# Altium footprint library PLD2-10.PcbLib: 1 footprints
Each footprint in its own frame and in the unit in brackets; x right, y up, seen from the top. Pads: shape width x height; smd on the part's side, far side on the other; paste and mask are expansions set on the pad; w line width, h text height; cw(c..) or ccw(c..) is an arc to the next point about the centre after c.
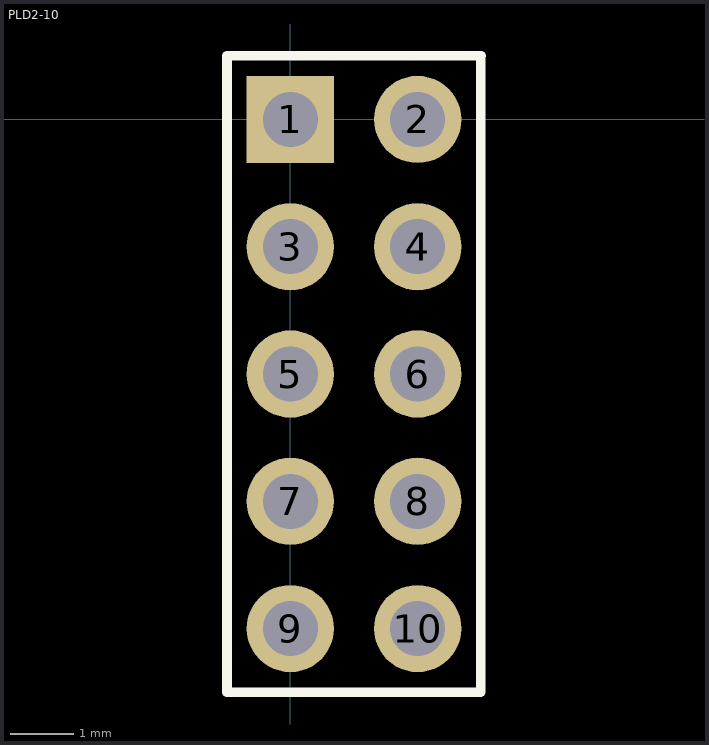
[diagram p0: the footprint, top view; thin cyan lines are the x and y axes]

## PLD2-10 [mil]
pads (10):
  rect 54x54 hole 34: 1(0,0)
  round 54 hole 34: 2(78.74,0) 3(0,-78.74) 4(78.74,-78.74) 5(0,-157.48) 6(78.74,-157.48) 7(0,-236.22) 8(78.74,-236.22) 9(0,-314.96) 10(78.74,-314.96)
Top Overlay:
  lines w5.91: 117.44,-354.33 -39.21,-354.33 -39.21,39.21 -39.37,39.37 118.11,39.37 117.83,39.09 117.83,-354.33
3D body "User Library-PLD2-10.step": height 216.54, standoff -98.43, extent -49.21,-354.33 131.89,39.37